# EAGLE library part MAX9911 (library maxim)
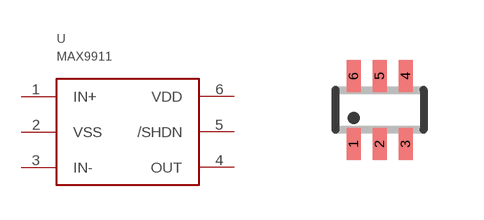
[diagram p399: symbol with the pads of SC70-6L; footprint SC70-6L]

Designator prefix -

## MAX9911  [SC70-6L]
1  IN+
2  VSS
3  IN-
4  OUT
5  /SHDN
6  VDD

## Footprint SC70-6L (pad centres in mm)
SC-70 Package
smd 0.35 x 0.8: 1 -0.65,-0.85; 2 0,-0.85; 3 0.65,-0.85; 4 0.65,0.85; 5 0,0.85; 6 -0.65,0.85